# Altium footprint library Fuse_Glass_Pcb.PcbLib: 3 footprints
Each footprint in its own frame and in the unit in brackets; x right, y up, seen from the top. Pads: shape width x height; smd on the part's side, far side on the other; paste and mask are expansions set on the pad; w line width, h text height; cw(c..) or ccw(c..) is an arc to the next point about the centre after c.
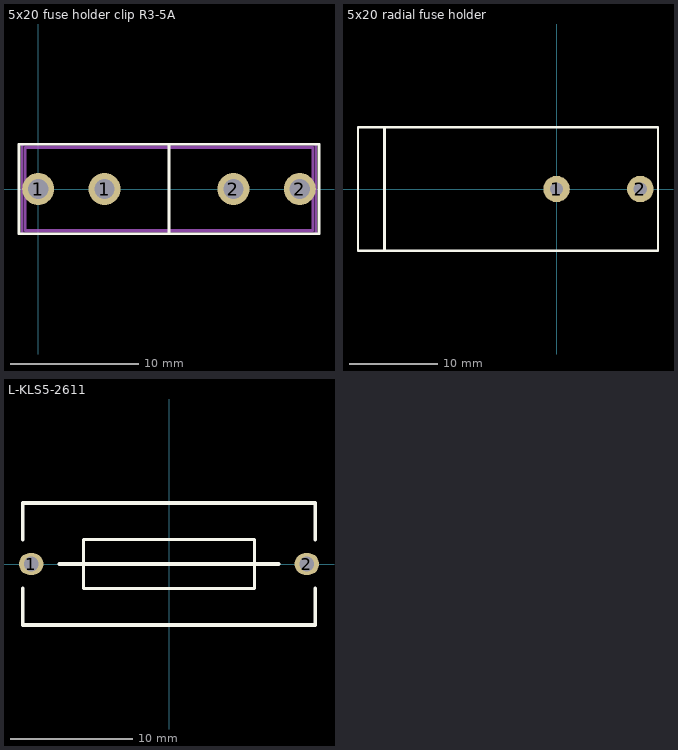
[diagram p0: the footprints below, top view; thin cyan lines are the x and y axes]

## 5x20 fuse holder clip R3-5A [mm]
pads (4):
  round 2.5 hole 1.6 paste+0 mask+0.1: 1(0,0) 1(5.2,0) 2(15.3,0) 2(20.5,0)
Top Overlay:
  lines w0.2: 10.25,-3.5 10.25,3.5 ; -1.5,-3.5 22,-3.5 22,3.5 -1.5,3.5 -1.5,0.25 -1.5,-3.5
Mechanical 13:
  lines w0.2: -1,-3.25 21.5,-3.25 21.5,3.25 -1,3.25 -1,0 -1,-3.25
  text "'.designator'" at -0.5,-2.624 h2
Mechanical 15:
  lines w0.2: -1.25,-3.5 21.75,-3.5 21.75,3.5 -1.25,3.5 -1.25,-3.5
3D body "5x20 fuse holder clip with fuse.STEP": height 8.63, standoff -3.56, extent -1.439,-3.174 21.939,3.174

## 5x20 radial fuse holder [mm]
pads (2):
  round 3 hole 1.5: 1(0,0) 2(9.5,0)
Top Overlay:
  lines w0.254: -22.5,-7 11.5,-7 ; -22.5,-7 -22.5,7 ; -22.5,-7 11.5,-7 ; -22.5,-7 -22.5,7 ; -22.5,-7 11.5,-7 ; -22.5,-7 -22.5,7 ; -22.5,-7 11.5,-7 ; -22.5,-7 -22.5,7 ; -22.5,-7 11.5,-7 ; -22.5,-7 -22.5,7 ; -22.5,-7 11.5,-7 ; -22.5,-7 -22.5,7 ; -22.5,7 11.5,7 ; -22.5,7 11.5,7 ; -22.5,7 11.5,7 ; -22.5,7 11.5,7 ; -22.5,7 11.5,7 ; -22.5,7 11.5,7 ; 11.5,-7 11.5,7 ; 11.5,-7 11.5,7 ; 11.5,-7 11.5,7 ; 11.5,-7 11.5,7 ; 11.5,-7 11.5,7 ; 11.5,-7 11.5,7
  lines w0.3: -19.5,-7 -19.5,7
Mechanical 13:
  lines w0.3: -19.5,-7 -19.5,7
  text ".designator" at -18.767,-6 h1.5
3D body "Fuse Holder PCB 20x5.step": height 11.71, standoff 0.01, extent -22.5,-6.5 15.5,6.5

## L-KLS5-2611 [mm]
pads (2):
  oval 2x1.8 hole 1.2: 1(-11.3,0) 2(11.3,0)
Top Overlay:
  lines w0.254: -7,-2 7,-2 7,2 -7,2 -7,-2
  lines w0.3: -12,-2 -12,-5 12,-5 12,-2 ; -12,2 -12,5 12,5 12,2 ; -9,0 9,0
Mechanical 13:
  text ".designator" at -11,-4.775 h1.2
3D body "User Library-696106003002_Download_STP_696106003002_rev1.STEP": height 13.6, standoff -3.5, extent -12.2,-4.7 12.2,4.7